# EAGLE library part DRAM256X9_MOD (library memories)
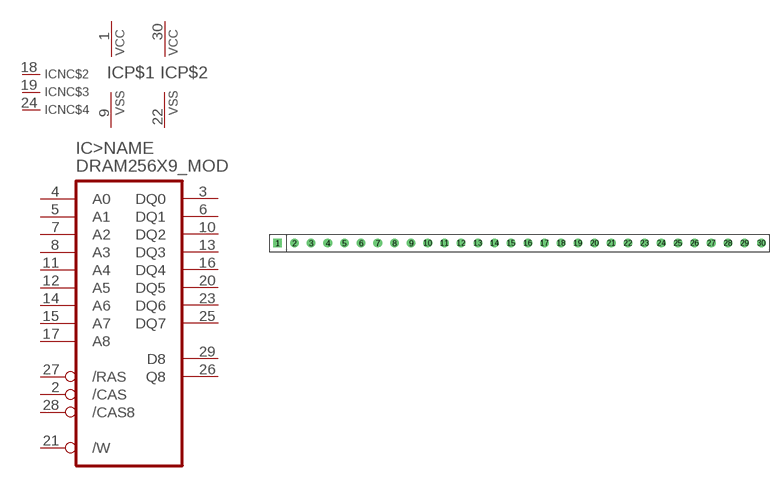
[diagram p11: symbol with the pads of SIMM30-TH; footprint SIMM30-TH]

Designator prefix IC; gates >NAME=DRAM256KX9 NC$2=NC NC$3=NC NC$4=NC P$1=VCCVSS P$2=VCCVSS

## DRAM256X9_MOD  [SIMM30-TH]
1  P$1:VCC  pwr
2  >NAME:/CAS  in
3  >NAME:DQ0
4  >NAME:A0  in
5  >NAME:A1  in
6  >NAME:DQ1
7  >NAME:A2  in
8  >NAME:A3  in
9  P$1:VSS  pwr
10  >NAME:DQ2
11  >NAME:A4  in
12  >NAME:A5  in
13  >NAME:DQ3
14  >NAME:A6  in
15  >NAME:A7  in
16  >NAME:DQ4
17  >NAME:A8  in
18  NC$2:NC  nc
19  NC$3:NC  nc
20  >NAME:DQ5
21  >NAME:/W  in
22  P$2:VSS  pwr
23  >NAME:DQ6
24  NC$4:NC  nc
25  >NAME:DQ7
26  >NAME:Q8  out
27  >NAME:/RAS  in
28  >NAME:/CAS8  in
29  >NAME:D8  in
30  P$2:VCC  pwr

## Footprint SIMM30-TH (pad centres in mm)
drill 0.8 square: 1 0,0
drill 0.8: 2 2.54,0; 3 5.08,0; 4 7.62,0; 5 10.16,0; 6 12.7,0; 7 15.24,0; 8 17.78,0; 9 20.32,0; 10 22.86,0; 11 25.4,0; 12 27.94,0; 13 30.48,0; 14 33.02,0; 15 35.56,0; 16 38.1,0; 17 40.64,0; 18 43.18,0; 19 45.72,0; 20 48.26,0; 21 50.8,0; 22 53.34,0; 23 55.88,0; 24 58.42,0; 25 60.96,0; 26 63.5,0; 27 66.04,0; 28 68.58,0; 29 71.12,0; 30 73.66,0